# Altium schematic symbol library TPD2E009DBZR.SchLib: 1 symbol
Pins are listed as number, name and electrical type; pins without a type are passive.

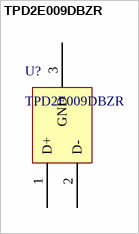
[diagram p0: symbol TPD2E009DBZR]

## TPD2E009DBZR
designator U?
ESD Protection Array for High-Speed Data Interfaces, 2 Channels, -40 to +85 degC, 3-pin SOT-23 (DBZ), Green (RoHS & no Sb/Br); Supplier 1: Digi-Key; Supplier Part Number 1: 296-24657-1-ND; Series: TPD2E009DBZR
pins: 1 D+, 2 D-, 3 GND